# Altium schematic symbol library Module.SchLib: 8 symbols
Pins are listed as number, name and electrical type; pins without a type are passive.

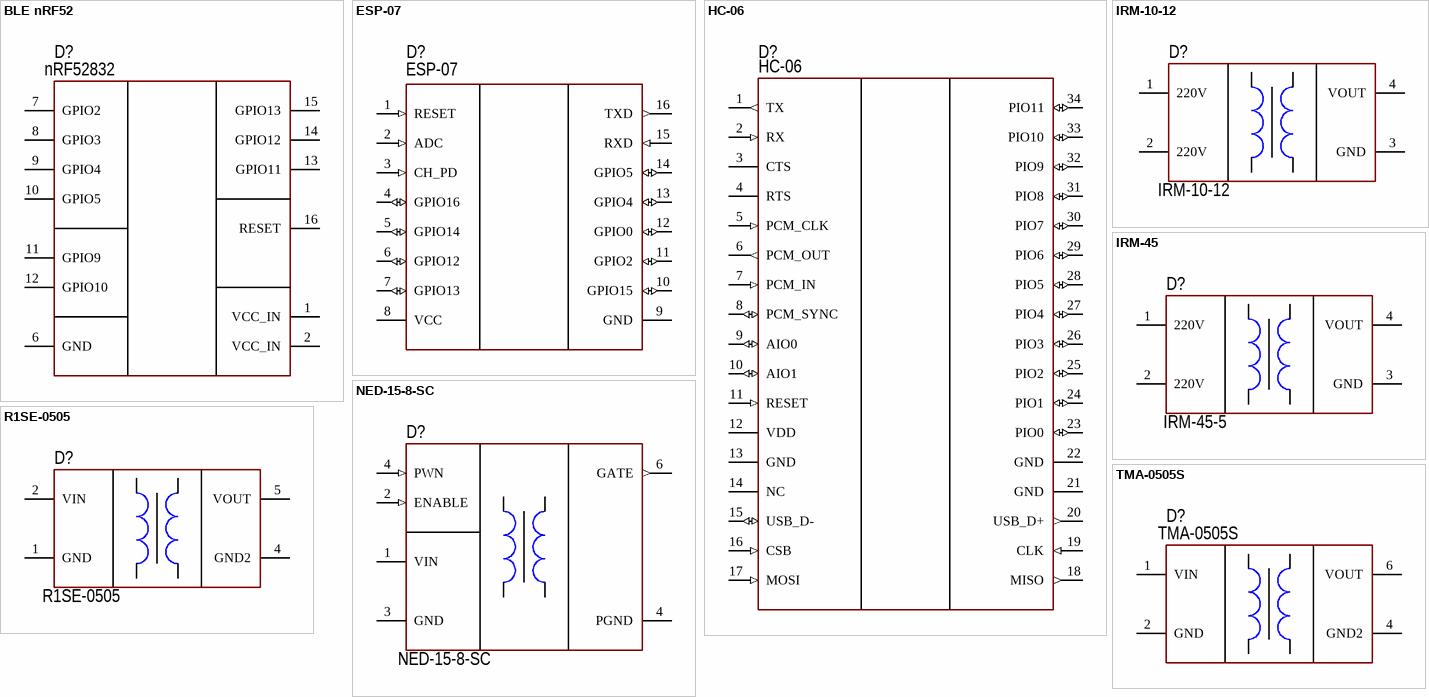
[diagram p0: symbols BLE nRF52 to TMA-0505S]

## BLE nRF52
designator D?, comment nRF52832
Bluetooth
footprint MOD: nRF52
pins: 1 VCC_IN, 2 VCC_IN, 6 GND, 7 GPIO2, 8 GPIO3, 9 GPIO4, 10 GPIO5, 11 GPIO9, 12 GPIO10, 13 GPIO11, 14 GPIO12, 15 GPIO13, 16 RESET

## ESP-07
designator D?
Wi-Fi; Manufacturer: China; Model: ESP-07; ComponentKind: Wi-Fi 2.4GHz; HelpURL: https://ru.aliexpress.com/wholesale?minPrice=&maxPrice=&isBigSale=n&isFreeShip=y&isNew=n&isFavorite=n&isMobileExclusive=n&isLocalReturn=n&shipFromCountry=&shipCompanies=&SearchText=ESP-07&CatId=0&initiative_id=SB_20170806224230&needQuery=y
footprint MOD: ESP-07
pins: 1 RESET (in), 2 ADC (in), 3 CH_PD (in), 4 GPIO16 (io), 5 GPIO14 (io), 6 GPIO12 (io), 7 GPIO13 (io), 8 VCC (power), 9 GND (power), 10 GPIO15 (io), 11 GPIO2 (io), 12 GPIO0 (io), 13 GPIO4 (io), 14 GPIO5 (io), 15 RXD (in), 16 TXD (out)

## HC-06
designator D?
Bluetooth; Manufacturer: China; Model: HC-06; ComponentKind: Bluetooth 2.4GHz; HelpURL: https://ru.aliexpress.com/wholesale?minPrice=&maxPrice=&isBigSale=n&isFreeShip=y&isNew=n&isFavorite=n&isMobileExclusive=n&isLocalReturn=n&shipFromCountry=&shipCompanies=&SearchText=HC-06&CatId=0&initiative_id=SB_20170806222546&needQuery=y
footprint MOD: HC-05 (Bluetooth 2.0 module)
pins: 1 TX (out), 2 RX (in), 3 CTS, 4 RTS, 5 PCM_CLK (in), 6 PCM_OUT (out), 7 PCM_IN (in), 8 PCM_SYNC (io), 9 AIO0 (io), 10 AIO1 (io), 11 RESET (in), 12 VDD, 13 GND, 14 NC, 15 USB_D- (io), 16 CSB (in), 17 MOSI (in), 18 MISO (out), 19 CLK (in), 20 USB_D+ (out), 21 GND, 22 GND, 23 PIO0 (io), 24 PIO1 (io), 25 PIO2 (io), 26 PIO3 (io), 27 PIO4 (io), 28 PIO5 (io), 29 PIO6 (io), 30 PIO7 (io), 31 PIO8 (io), 32 PIO9 (io), 33 PIO10 (io), 34 PIO11 (io)

## IRM-10-12
designator D?
Isolator DC; Manufacturer: MEAN WELL; Model: IRM-10-12; ComponentKind: 10W; HelpURL: https://ru.mouser.com/ProductDetail/MEAN-WELL/IRM-10-12?qs=%2fha2pyFaduinEh%2fsL8Dm3dC%2f6llusOicbYSZP6avck9m518FKrUQ9Q%3d%3d
footprint MOD: IRM-10-12
pins: 1 220V (power), 2 220V (power), 3 GND (power), 4 VOUT (power)

## IRM-45
designator D?, comment IRM-45-5
Isolator DC; Manufacturer: MEAN WELL; Model: IRM-45-5; ComponentKind: 45W; HelpURL: https://ru.mouser.com/ProductDetail/MEAN-WELL/IRM-45-5?qs=sGAEpiMZZMuWiaalG5TUgItXvBdzAI9%252bvFTzxtRkSTqFceB9k4JzKQ%3d%3d
footprint MOD: IRM-45
pins: 1 220V (power), 2 220V (power), 3 GND (power), 4 VOUT (power)

## NED-15-8-SC
designator D?
Isolator DC; Manufacturer: Traco Power; Model: NED-15-8-SC; ComponentKind: 1W; HelpURL: https://www.chipdip.ru/product/tma0505s
footprint MOD: NED-15-8-SC
pins: 1 VIN (power), 2 ENABLE (in), 3 GND (power), 4 PGND (power), 4 PWN (in), 6 GATE (out)

## R1SE-0505
designator D?
Isolator DC; Manufacturer: RECOM Power; Model: R1SE-0505; ComponentKind: 1W; HelpURL: https://ru.mouser.com/ProductDetail/RECOM-Power/R1SE-0505-R?qs=%2fha2pyFaduhEzWeyu9RcrtYl%2fPhjLX%2fFHVUmin5SzckWK4wUC7NEgw%3d%3d
footprint MOD: R1SE
pins: 1 GND (power), 2 VIN (power), 4 GND2 (power), 5 VOUT (power)

## TMA-0505S
designator D?
Isolator DC; Manufacturer: Traco Power; Model: TMA-0505S; ComponentKind: 1W; HelpURL: https://www.chipdip.ru/product/tma0505s
footprint MOD: TMA-0505S
pins: 1 VIN (power), 2 GND (power), 4 GND2 (power), 6 VOUT (power)